# Altium schematic symbol library SCH - MCU - STM32 - ST MICROELECTRONICS STM32F410R(8-B)IX UFBGA64.SchLib: 1 symbol
Pins are listed as number, name and electrical type; pins without a type are passive.

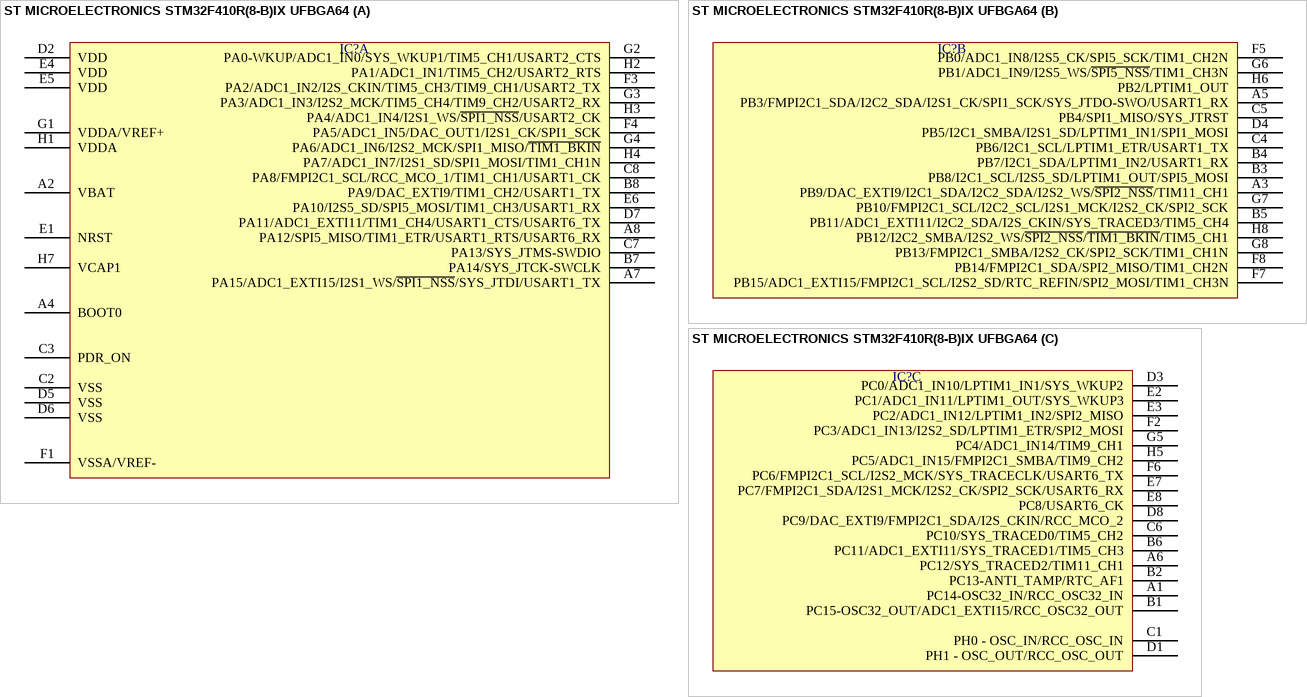
[diagram p0: symbol ST MICROELECTRONICS STM32F410R(8-B)IX UFBGA64]

## ST MICROELECTRONICS STM32F410R(8-B)IX UFBGA64
designator IC?  (value not drawn)
part A pins: A2 VBAT, A4 BOOT0, A7 PA15/ADC1_EXTI15/I2S1_WS/~{SPI1_NSS}/SYS_JTDI/USART1_TX, A8 PA12/SPI5_MISO/TIM1_ETR/USART1_RTS/USART6_RX, B7 PA14/SYS_JTCK-SWCLK, B8 PA9/DAC_EXTI9/TIM1_CH2/USART1_TX, C2 VSS, C3 PDR_ON, C7 PA13/SYS_JTMS-SWDIO, C8 PA8/FMPI2C1_SCL/RCC_MCO_1/TIM1_CH1/USART1_CK, D2 VDD, D5 VSS, D6 VSS, D7 PA11/ADC1_EXTI11/TIM1_CH4/USART1_CTS/USART6_TX, E1 NRST, E4 VDD, E5 VDD, E6 PA10/I2S5_SD/SPI5_MOSI/TIM1_CH3/USART1_RX, F1 VSSA/VREF-, F3 PA2/ADC1_IN2/I2S_CKIN/TIM5_CH3/TIM9_CH1/USART2_TX, F4 PA5/ADC1_IN5/DAC_OUT1/I2S1_CK/SPI1_SCK, G1 VDDA/VREF+, G2 PA0-WKUP/ADC1_IN0/SYS_WKUP1/TIM5_CH1/USART2_CTS, G3 PA3/ADC1_IN3/I2S2_MCK/TIM5_CH4/TIM9_CH2/USART2_RX, G4 PA6/ADC1_IN6/I2S2_MCK/SPI1_MISO/~{TIM1_BKIN}, H1 VDDA, H2 PA1/ADC1_IN1/TIM5_CH2/USART2_RTS, H3 PA4/ADC1_IN4/I2S1_WS/~{SPI1_NSS}/USART2_CK, H4 PA7/ADC1_IN7/I2S1_SD/SPI1_MOSI/TIM1_CH1N, H7 VCAP1
part B pins: A3 PB9/DAC_EXTI9/I2C1_SDA/I2C2_SDA/I2S2_WS/~{SPI2_NSS}/TIM11_CH1, A5 PB3/FMPI2C1_SDA/I2C2_SDA/I2S1_CK/SPI1_SCK/SYS_JTDO-SWO/USART1_RX, B3 PB8/I2C1_SCL/I2S5_SD/LPTIM1_OUT/SPI5_MOSI, B4 PB7/I2C1_SDA/LPTIM1_IN2/USART1_RX, B5 PB11/ADC1_EXTI11/I2C2_SDA/I2S_CKIN/SYS_TRACED3/TIM5_CH4, C4 PB6/I2C1_SCL/LPTIM1_ETR/USART1_TX, C5 PB4/SPI1_MISO/SYS_JTRST, D4 PB5/I2C1_SMBA/I2S1_SD/LPTIM1_IN1/SPI1_MOSI, F5 PB0/ADC1_IN8/I2S5_CK/SPI5_SCK/TIM1_CH2N, F7 PB15/ADC1_EXTI15/FMPI2C1_SCL/I2S2_SD/RTC_REFIN/SPI2_MOSI/TIM1_CH3N, F8 PB14/FMPI2C1_SDA/SPI2_MISO/TIM1_CH2N, G6 PB1/ADC1_IN9/I2S5_WS/~{SPI5_NSS}/TIM1_CH3N, G7 PB10/FMPI2C1_SCL/I2C2_SCL/I2S1_MCK/I2S2_CK/SPI2_SCK, G8 PB13/FMPI2C1_SMBA/I2S2_CK/SPI2_SCK/TIM1_CH1N, H6 PB2/LPTIM1_OUT, H8 PB12/I2C2_SMBA/I2S2_WS/~{SPI2_NSS}/~{TIM1_BKIN}/TIM5_CH1
part C pins: A1 PC14-OSC32_IN/RCC_OSC32_IN, A6 PC12/SYS_TRACED2/TIM11_CH1, B1 PC15-OSC32_OUT/ADC1_EXTI15/RCC_OSC32_OUT, B2 PC13-ANTI_TAMP/RTC_AF1, B6 PC11/ADC1_EXTI11/SYS_TRACED1/TIM5_CH3, C1 PH0 - OSC_IN/RCC_OSC_IN, C6 PC10/SYS_TRACED0/TIM5_CH2, D1 PH1 - OSC_OUT/RCC_OSC_OUT, D3 PC0/ADC1_IN10/LPTIM1_IN1/SYS_WKUP2, D8 PC9/DAC_EXTI9/FMPI2C1_SDA/I2S_CKIN/RCC_MCO_2, E2 PC1/ADC1_IN11/LPTIM1_OUT/SYS_WKUP3, E3 PC2/ADC1_IN12/LPTIM1_IN2/SPI2_MISO, E7 PC7/FMPI2C1_SDA/I2S1_MCK/I2S2_CK/SPI2_SCK/USART6_RX, E8 PC8/USART6_CK, F2 PC3/ADC1_IN13/I2S2_SD/LPTIM1_ETR/SPI2_MOSI, F6 PC6/FMPI2C1_SCL/I2S2_MCK/SYS_TRACECLK/USART6_TX, G5 PC4/ADC1_IN14/TIM9_CH1, H5 PC5/ADC1_IN15/FMPI2C1_SMBA/TIM9_CH2